# Altium footprint library PSemi.PcbLib: 2 footprints
Each footprint in its own frame and in the unit in brackets; x right, y up, seen from the top. Pads: shape width x height; smd on the part's side, far side on the other; paste and mask are expansions set on the pad; w line width, h text height; cw(c..) or ccw(c..) is an arc to the next point about the centre after c.
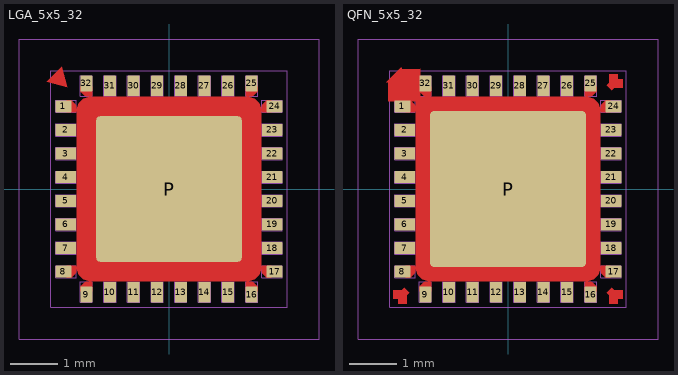
[diagram p0: the footprints below, top view; thin cyan lines are the x and y axes]

## LGA_5x5_32 [mm]
pads (33):
  rrect10% 0.333x0.254 smd mask+0.038: 1(-2.233,1.75) 8(-2.233,-1.75) 17(2.233,-1.75) 24(2.233,1.75)
  rrect10% 0.435x0.254 smd mask+0.038: 2(-2.182,1.25) 3(-2.182,0.75) 4(-2.182,0.25) 5(-2.182,-0.25) 6(-2.182,-0.75) 7(-2.182,-1.25) 18(2.182,-1.25) 19(2.182,-0.75) 20(2.182,-0.25) 21(2.182,0.25) 22(2.182,0.75) 23(2.182,1.25)
  rrect10% 0.254x0.333 smd mask+0.038: 9(-1.75,-2.233) 16(1.75,-2.233) 25(1.75,2.233) 32(-1.75,2.233)
  rrect10% 0.254x0.435 smd mask+0.038: 10(-1.25,-2.182) 11(-0.75,-2.182) 12(-0.25,-2.182) 13(0.25,-2.182) 14(0.75,-2.182) 15(1.25,-2.182) 26(1.25,2.182) 27(0.75,2.182) 28(0.25,2.182) 29(-0.25,2.182) 30(-0.75,2.182) 31(-1.25,2.182)
  rrect5% 3.08x3.08 smd paste-5.08 mask+0.051: P(0,0)
Top Layer:
  region: -2.159,2.159 -2.267,2.59 -2.59,2.267
  pour cut-out: -1.626,1.956 -1.691,1.956 -1.813,1.906 -1.906,1.813 -1.956,1.691 -1.956,1.626 -1.956,-1.626 -1.956,-1.691 -1.906,-1.813 -1.813,-1.906 -1.691,-1.956 -1.626,-1.956 1.626,-1.956 1.691,-1.956 1.813,-1.906 1.906,-1.813 1.956,-1.691 1.956,-1.626 1.956,1.626 1.956,1.691 1.906,1.813 1.813,1.906 1.691,1.956 1.626,1.956
  region: 2.168,-1.623 1.99,-1.623 1.985,-1.623 1.976,-1.627 1.969,-1.634 1.965,-1.643 1.965,-1.648 1.965,-1.739 1.965,-1.748 1.968,-1.765 1.975,-1.781 1.984,-1.795 1.99,-1.801 2.049,-1.859 2.053,-1.863 2.063,-1.87 2.074,-1.875 2.086,-1.877 2.092,-1.877 2.168,-1.877
  region: 2.168,1.623 1.99,1.623 1.985,1.623 1.976,1.627 1.969,1.634 1.965,1.643 1.965,1.648 1.965,1.739 1.965,1.748 1.968,1.765 1.975,1.781 1.984,1.795 1.99,1.801 2.049,1.859 2.053,1.863 2.063,1.87 2.074,1.875 2.086,1.877 2.092,1.877 2.168,1.877
  region: -1.623,2.168 -1.623,1.99 -1.623,1.985 -1.627,1.976 -1.634,1.969 -1.643,1.965 -1.648,1.965 -1.739,1.965 -1.748,1.965 -1.765,1.968 -1.781,1.975 -1.795,1.984 -1.801,1.99 -1.859,2.049 -1.863,2.053 -1.87,2.063 -1.875,2.074 -1.877,2.086 -1.877,2.092 -1.877,2.168
  region: 1.623,2.168 1.623,1.99 1.623,1.985 1.627,1.976 1.634,1.969 1.643,1.965 1.648,1.965 1.739,1.965 1.748,1.965 1.765,1.968 1.781,1.975 1.795,1.984 1.801,1.99 1.859,2.049 1.863,2.053 1.87,2.063 1.875,2.074 1.877,2.086 1.877,2.092 1.877,2.168
  region: -2.168,-1.623 -1.99,-1.623 -1.985,-1.623 -1.976,-1.627 -1.969,-1.634 -1.965,-1.643 -1.965,-1.648 -1.965,-1.739 -1.965,-1.748 -1.968,-1.765 -1.975,-1.781 -1.984,-1.795 -1.99,-1.801 -2.049,-1.859 -2.053,-1.863 -2.063,-1.87 -2.074,-1.875 -2.086,-1.877 -2.092,-1.877 -2.168,-1.877
  region: -2.168,1.623 -1.99,1.623 -1.985,1.623 -1.976,1.627 -1.969,1.634 -1.965,1.643 -1.965,1.648 -1.965,1.739 -1.965,1.748 -1.968,1.765 -1.975,1.781 -1.984,1.795 -1.99,1.801 -2.049,1.859 -2.053,1.863 -2.063,1.87 -2.074,1.875 -2.086,1.877 -2.092,1.877 -2.168,1.877
  region: 1.623,-2.168 1.623,-1.99 1.623,-1.985 1.627,-1.976 1.634,-1.969 1.643,-1.965 1.648,-1.965 1.739,-1.965 1.748,-1.965 1.765,-1.968 1.781,-1.975 1.795,-1.984 1.801,-1.99 1.859,-2.049 1.863,-2.053 1.87,-2.063 1.875,-2.074 1.877,-2.086 1.877,-2.092 1.877,-2.168
  region: -1.623,-2.168 -1.623,-1.99 -1.623,-1.985 -1.627,-1.976 -1.634,-1.969 -1.643,-1.965 -1.648,-1.965 -1.739,-1.965 -1.748,-1.965 -1.765,-1.968 -1.781,-1.975 -1.795,-1.984 -1.801,-1.99 -1.859,-2.049 -1.863,-2.053 -1.87,-2.063 -1.875,-2.074 -1.877,-2.086 -1.877,-2.092 -1.877,-2.168
Top Paste:
  rectangle: -0.432,-0.432 0.432,0.432
  rectangle: -0.432,0.635 0.432,1.499
  rectangle: 0.635,-0.432 1.499,0.432
  rectangle: 0.635,0.635 1.499,1.499
  region: -0.635,0.635 -0.635,1.499 -1.499,1.499 -1.499,0.635
  region: -0.635,0.432 -1.499,0.432 -1.499,-0.432 -0.635,-0.432
  region: -0.635,-0.635 -1.499,-0.635 -1.499,-1.499 -0.635,-1.499
  region: -0.432,-0.635 -0.432,-1.499 0.432,-1.499 0.432,-0.635
  region: 0.635,-0.635 0.635,-1.499 1.499,-1.499 1.499,-0.635
Top Courtyard:
  lines w0.025: -3.175,-3.175 -3.175,3.175 3.175,3.175 3.175,-3.175 -3.175,-3.175
Top Component Outline:
  lines w0.025: -2.5,-2.5 -2.5,2.5 2.5,2.5 2.5,-2.5 -2.5,-2.5 ; -2.4,-1.88 -1.965,-1.88 -1.965,-1.62 -2.4,-1.62 -2.4,-1.88 ; -2.4,-1.38 -1.965,-1.38 -1.965,-1.12 -2.4,-1.12 -2.4,-1.38 ; -2.4,-0.88 -1.965,-0.88 -1.965,-0.62 -2.4,-0.62 -2.4,-0.88 ; -2.4,-0.38 -2.4,-0.12 -1.965,-0.12 -1.965,-0.38 -2.4,-0.38 ; -2.4,0.12 -1.965,0.12 -1.965,0.38 -2.4,0.38 -2.4,0.12 ; -2.4,0.62 -2.4,0.88 -1.965,0.88 -1.965,0.62 -2.4,0.62 ; -2.4,1.12 -2.4,1.38 -1.965,1.38 -1.965,1.12 -2.4,1.12 ; -2.4,1.62 -2.4,1.88 -1.965,1.88 -1.965,1.62 -2.4,1.62 ; -1.88,-2.4 -1.88,-1.965 -1.62,-1.965 -1.62,-2.4 -1.88,-2.4 ; -1.88,1.965 -1.62,1.965 -1.62,2.4 -1.88,2.4 -1.88,1.965 ; -1.38,-2.4 -1.38,-1.965 -1.12,-1.965 -1.12,-2.4 -1.38,-2.4 ; -1.38,1.965 -1.12,1.965 -1.12,2.4 -1.38,2.4 -1.38,1.965 ; -0.88,-2.4 -0.88,-1.965 -0.62,-1.965 -0.62,-2.4 -0.88,-2.4 ; -0.88,1.965 -0.88,2.4 -0.62,2.4 -0.62,1.965 -0.88,1.965 ; -0.38,-2.4 -0.12,-2.4 -0.12,-1.965 -0.38,-1.965 -0.38,-2.4 ; -0.38,1.965 -0.38,2.4 -0.12,2.4 -0.12,1.965 -0.38,1.965 ; 0.12,-2.4 0.12,-1.965 0.38,-1.965 0.38,-2.4 0.12,-2.4 ; 0.12,1.965 0.38,1.965 0.38,2.4 0.12,2.4 0.12,1.965 ; 0.62,-2.4 0.88,-2.4 0.88,-1.965 0.62,-1.965 0.62,-2.4 ; 0.62,1.965 0.62,2.4 0.88,2.4 0.88,1.965 0.62,1.965 ; 1.12,-2.4 1.38,-2.4 1.38,-1.965 1.12,-1.965 1.12,-2.4 ; 1.12,1.965 1.12,2.4 1.38,2.4 1.38,1.965 1.12,1.965 ; 1.62,-2.4 1.88,-2.4 1.88,-1.965 1.62,-1.965 1.62,-2.4 ; 1.62,1.965 1.62,2.4 1.88,2.4 1.88,1.965 1.62,1.965 ; 1.965,-1.88 2.4,-1.88 2.4,-1.62 1.965,-1.62 1.965,-1.88 ; 1.965,-1.38 2.4,-1.38 2.4,-1.12 1.965,-1.12 1.965,-1.38 ; 1.965,-0.88 2.4,-0.88 2.4,-0.62 1.965,-0.62 1.965,-0.88 ; 1.965,-0.38 1.965,-0.12 2.4,-0.12 2.4,-0.38 1.965,-0.38 ; 1.965,0.12 2.4,0.12 2.4,0.38 1.965,0.38 1.965,0.12 ; 1.965,0.62 1.965,0.88 2.4,0.88 2.4,0.62 1.965,0.62 ; 1.965,1.12 1.965,1.38 2.4,1.38 2.4,1.12 1.965,1.12 ; 1.965,1.62 1.965,1.88 2.4,1.88 2.4,1.62 1.965,1.62
3D body: height 0.89, standoff 0, extent -2.5,-2.5 2.5,2.5

## QFN_5x5_32 [mm]
pads (33):
  rrect10% 0.333x0.254 smd mask+0.038: 1(-2.233,1.75) 8(-2.233,-1.75) 17(2.233,-1.75) 24(2.233,1.75)
  rrect10% 0.435x0.254 smd mask+0.038: 2(-2.182,1.25) 3(-2.182,0.75) 4(-2.182,0.25) 5(-2.182,-0.25) 6(-2.182,-0.75) 7(-2.182,-1.25) 18(2.182,-1.25) 19(2.182,-0.75) 20(2.182,-0.25) 21(2.182,0.25) 22(2.182,0.75) 23(2.182,1.25)
  rrect10% 0.254x0.333 smd mask+0.038: 9(-1.75,-2.233) 16(1.75,-2.233) 25(1.75,2.233) 32(-1.75,2.233)
  rrect10% 0.254x0.435 smd mask+0.038: 10(-1.25,-2.182) 11(-0.75,-2.182) 12(-0.25,-2.182) 13(0.25,-2.182) 14(0.75,-2.182) 15(1.25,-2.182) 26(1.25,2.182) 27(0.75,2.182) 28(0.25,2.182) 29(-0.25,2.182) 30(-0.75,2.182) 31(-1.25,2.182)
  rrect5% 3.3x3.3 smd paste-5.08 mask+0.051: P(0,0)
Top Layer:
  region: -2.147,2.147 -2.255,2.578 -2.578,2.255
  region: -2.2,-2.094 -2.253,-2.147 -2.433,-2.147 -2.433,-2.327 -2.327,-2.327 -2.327,-2.433 -2.147,-2.433 -2.147,-2.253 -2.094,-2.2
  region: 2.094,-2.2 2.147,-2.253 2.147,-2.433 2.327,-2.433 2.327,-2.327 2.433,-2.327 2.433,-2.147 2.253,-2.147 2.2,-2.094
  region: 2.2,2.094 2.253,2.147 2.433,2.147 2.433,2.327 2.327,2.327 2.327,2.433 2.147,2.433 2.147,2.253 2.094,2.2
  pour cut-out: -1.626,1.956 -1.691,1.956 -1.813,1.906 -1.906,1.813 -1.956,1.691 -1.956,1.626 -1.956,-1.626 -1.956,-1.691 -1.906,-1.813 -1.813,-1.906 -1.691,-1.956 -1.626,-1.956 1.626,-1.956 1.691,-1.956 1.813,-1.906 1.906,-1.813 1.956,-1.691 1.956,-1.626 1.956,1.626 1.956,1.691 1.906,1.813 1.813,1.906 1.691,1.956 1.626,1.956
  pour cut-out: -1.575,1.575 -1.575,1.956 -1.854,1.956 -1.854,2.54 -2.261,2.54 -2.54,2.261 -2.54,1.854 -1.956,1.854 -1.956,1.575
  region: 2.168,-1.623 1.99,-1.623 1.985,-1.623 1.976,-1.627 1.969,-1.634 1.965,-1.643 1.965,-1.648 1.965,-1.739 1.965,-1.748 1.968,-1.765 1.975,-1.781 1.984,-1.795 1.99,-1.801 2.049,-1.859 2.053,-1.863 2.063,-1.87 2.074,-1.875 2.086,-1.877 2.092,-1.877 2.168,-1.877
  region: 2.168,1.623 1.99,1.623 1.985,1.623 1.976,1.627 1.969,1.634 1.965,1.643 1.965,1.648 1.965,1.739 1.965,1.748 1.968,1.765 1.975,1.781 1.984,1.795 1.99,1.801 2.049,1.859 2.053,1.863 2.063,1.87 2.074,1.875 2.086,1.877 2.092,1.877 2.168,1.877
  region: -1.623,2.168 -1.623,1.99 -1.623,1.985 -1.627,1.976 -1.634,1.969 -1.643,1.965 -1.648,1.965 -1.739,1.965 -1.748,1.965 -1.765,1.968 -1.781,1.975 -1.795,1.984 -1.801,1.99 -1.859,2.049 -1.863,2.053 -1.87,2.063 -1.875,2.074 -1.877,2.086 -1.877,2.092 -1.877,2.168
  region: 1.623,2.168 1.623,1.99 1.623,1.985 1.627,1.976 1.634,1.969 1.643,1.965 1.648,1.965 1.739,1.965 1.748,1.965 1.765,1.968 1.781,1.975 1.795,1.984 1.801,1.99 1.859,2.049 1.863,2.053 1.87,2.063 1.875,2.074 1.877,2.086 1.877,2.092 1.877,2.168
  region: -2.168,-1.623 -1.99,-1.623 -1.985,-1.623 -1.976,-1.627 -1.969,-1.634 -1.965,-1.643 -1.965,-1.648 -1.965,-1.739 -1.965,-1.748 -1.968,-1.765 -1.975,-1.781 -1.984,-1.795 -1.99,-1.801 -2.049,-1.859 -2.053,-1.863 -2.063,-1.87 -2.074,-1.875 -2.086,-1.877 -2.092,-1.877 -2.168,-1.877
  region: -2.168,1.623 -1.99,1.623 -1.985,1.623 -1.976,1.627 -1.969,1.634 -1.965,1.643 -1.965,1.648 -1.965,1.739 -1.965,1.748 -1.968,1.765 -1.975,1.781 -1.984,1.795 -1.99,1.801 -2.049,1.859 -2.053,1.863 -2.063,1.87 -2.074,1.875 -2.086,1.877 -2.092,1.877 -2.168,1.877
  region: 1.623,-2.168 1.623,-1.99 1.623,-1.985 1.627,-1.976 1.634,-1.969 1.643,-1.965 1.648,-1.965 1.739,-1.965 1.748,-1.965 1.765,-1.968 1.781,-1.975 1.795,-1.984 1.801,-1.99 1.859,-2.049 1.863,-2.053 1.87,-2.063 1.875,-2.074 1.877,-2.086 1.877,-2.092 1.877,-2.168
  region: -1.623,-2.168 -1.623,-1.99 -1.623,-1.985 -1.627,-1.976 -1.634,-1.969 -1.643,-1.965 -1.648,-1.965 -1.739,-1.965 -1.748,-1.965 -1.765,-1.968 -1.781,-1.975 -1.795,-1.984 -1.801,-1.99 -1.859,-2.049 -1.863,-2.053 -1.87,-2.063 -1.875,-2.074 -1.877,-2.086 -1.877,-2.092 -1.877,-2.168
Top Paste:
  rectangle: -0.432,-0.432 0.432,0.432
  rectangle: -0.432,0.635 0.432,1.499
  rectangle: 0.635,-0.432 1.499,0.432
  rectangle: 0.635,0.635 1.499,1.499
  region: -0.635,0.635 -0.635,1.499 -1.499,1.499 -1.499,0.635
  region: -0.635,0.432 -1.499,0.432 -1.499,-0.432 -0.635,-0.432
  region: -0.635,-0.635 -1.499,-0.635 -1.499,-1.499 -0.635,-1.499
  region: -0.432,-0.635 -0.432,-1.499 0.432,-1.499 0.432,-0.635
  region: 0.635,-0.635 0.635,-1.499 1.499,-1.499 1.499,-0.635
Top Designator:
  text ".Designator" at -3.242,-0.317 h0.89
Top Courtyard:
  lines w0.025: -3.175,-3.175 3.175,-3.175 3.175,3.175 -3.175,3.175 -3.175,-3.175
Top Component Outline:
  lines w0.025: -2.5,-2.5 2.5,-2.5 2.5,2.5 -2.5,2.5 -2.5,-2.5 ; -2.4,-1.88 -2.4,-1.62 -1.965,-1.62 -1.965,-1.88 -2.4,-1.88 ; -2.4,-1.38 -2.4,-1.12 -1.965,-1.12 -1.965,-1.38 -2.4,-1.38 ; -2.4,-0.88 -2.4,-0.62 -1.965,-0.62 -1.965,-0.88 -2.4,-0.88 ; -2.4,-0.38 -1.965,-0.38 -1.965,-0.12 -2.4,-0.12 -2.4,-0.38 ; -2.4,0.12 -2.4,0.38 -1.965,0.38 -1.965,0.12 -2.4,0.12 ; -2.4,0.62 -1.965,0.62 -1.965,0.88 -2.4,0.88 -2.4,0.62 ; -2.4,1.12 -1.965,1.12 -1.965,1.38 -2.4,1.38 -2.4,1.12 ; -2.4,1.62 -1.965,1.62 -1.965,1.88 -2.4,1.88 -2.4,1.62 ; -1.88,-2.4 -1.62,-2.4 -1.62,-1.965 -1.88,-1.965 -1.88,-2.4 ; -1.88,1.965 -1.88,2.4 -1.62,2.4 -1.62,1.965 -1.88,1.965 ; -1.38,-2.4 -1.12,-2.4 -1.12,-1.965 -1.38,-1.965 -1.38,-2.4 ; -1.38,1.965 -1.38,2.4 -1.12,2.4 -1.12,1.965 -1.38,1.965 ; -0.88,-2.4 -0.62,-2.4 -0.62,-1.965 -0.88,-1.965 -0.88,-2.4 ; -0.88,1.965 -0.88,2.4 -0.62,2.4 -0.62,1.965 -0.88,1.965 ; -0.38,-2.4 -0.38,-1.965 -0.12,-1.965 -0.12,-2.4 -0.38,-2.4 ; -0.38,1.965 -0.12,1.965 -0.12,2.4 -0.38,2.4 -0.38,1.965 ; 0.12,-2.4 0.38,-2.4 0.38,-1.965 0.12,-1.965 0.12,-2.4 ; 0.12,1.965 0.12,2.4 0.38,2.4 0.38,1.965 0.12,1.965 ; 0.62,-2.4 0.62,-1.965 0.88,-1.965 0.88,-2.4 0.62,-2.4 ; 0.62,1.965 0.88,1.965 0.88,2.4 0.62,2.4 0.62,1.965 ; 1.12,-2.4 1.12,-1.965 1.38,-1.965 1.38,-2.4 1.12,-2.4 ; 1.12,1.965 1.38,1.965 1.38,2.4 1.12,2.4 1.12,1.965 ; 1.62,-2.4 1.62,-1.965 1.88,-1.965 1.88,-2.4 1.62,-2.4 ; 1.62,1.965 1.88,1.965 1.88,2.4 1.62,2.4 1.62,1.965 ; 1.965,-1.88 1.965,-1.62 2.4,-1.62 2.4,-1.88 1.965,-1.88 ; 1.965,-1.38 1.965,-1.12 2.4,-1.12 2.4,-1.38 1.965,-1.38 ; 1.965,-0.88 1.965,-0.62 2.4,-0.62 2.4,-0.88 1.965,-0.88 ; 1.965,-0.38 2.4,-0.38 2.4,-0.12 1.965,-0.12 1.965,-0.38 ; 1.965,0.12 1.965,0.38 2.4,0.38 2.4,0.12 1.965,0.12 ; 1.965,0.62 2.4,0.62 2.4,0.88 1.965,0.88 1.965,0.62 ; 1.965,1.12 2.4,1.12 2.4,1.38 1.965,1.38 1.965,1.12 ; 1.965,1.62 2.4,1.62 2.4,1.88 1.965,1.88 1.965,1.62
3D body: height 0.89, standoff 0, extent -2.5,-2.5 2.5,2.5